# Altium schematic symbol library SOT-23 BAV70 A4.Schlib: 1 symbol
Pins are listed as number, name and electrical type; pins without a type are passive.

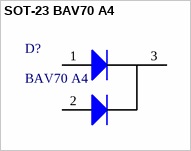
[diagram p0: symbol SOT-23 BAV70 A4]

## SOT-23 BAV70 A4
designator D?, comment BAV70 A4
开关二极管
footprint SOT-23(SOT-23-3)
pins: 1 A, 2 A, 3 K